# EAGLE library part LIPOSHIM (library HermitRetro)
Pimoroni Lipo Shim
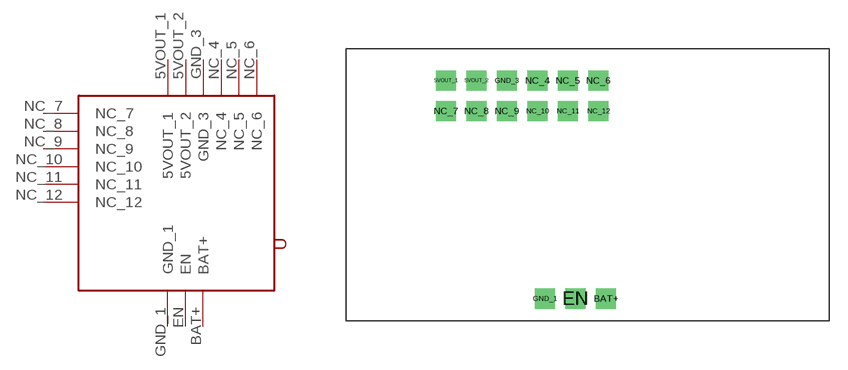
[diagram p13: symbol with the pads of LIPOSHIM; footprint LIPOSHIM]

Designator prefix -

## LIPOSHIM (UNIT_PRICE: 10.00; VENDOR_ID: Pimoroni)  [LIPOSHIM]
5VOUT_1  5VOUT_1
5VOUT_2  5VOUT_2
BAT+  BAT+
EN  EN
GND_1  GND_1
GND_3  GND_3
NC_4  NC_4
NC_5  NC_5
NC_6  NC_6
NC_7  NC_7
NC_8  NC_8
NC_9  NC_9
NC_10  NC_10
NC_11  NC_11
NC_12  NC_12

## Footprint LIPOSHIM (pad centres in mm)
Pimoroni Lipo Shim
drill 1 pad 1.676 square: 5VOUT_1 8.34,20.02; 5VOUT_2 10.88,20.02; BAT+ 21.68,1.84; EN 19.14,1.84; GND_1 16.6,1.84; GND_3 13.42,20.02; NC_4 15.96,20.02; NC_5 18.5,20.02; NC_6 21.04,20.02; NC_7 8.34,17.48; NC_8 10.88,17.48; NC_9 13.42,17.48; NC_10 15.96,17.48; NC_11 18.5,17.48; NC_12 21.04,17.48